# Altium footprint library OnlabFootprints.PcbLib: 20 footprints (part 2 of 2)
Each footprint in its own frame and in the unit in brackets; x right, y up, seen from the top. Pads: shape width x height; smd on the part's side, far side on the other; paste and mask are expansions set on the pad; w line width, h text height; cw(c..) or ccw(c..) is an arc to the next point about the centre after c.
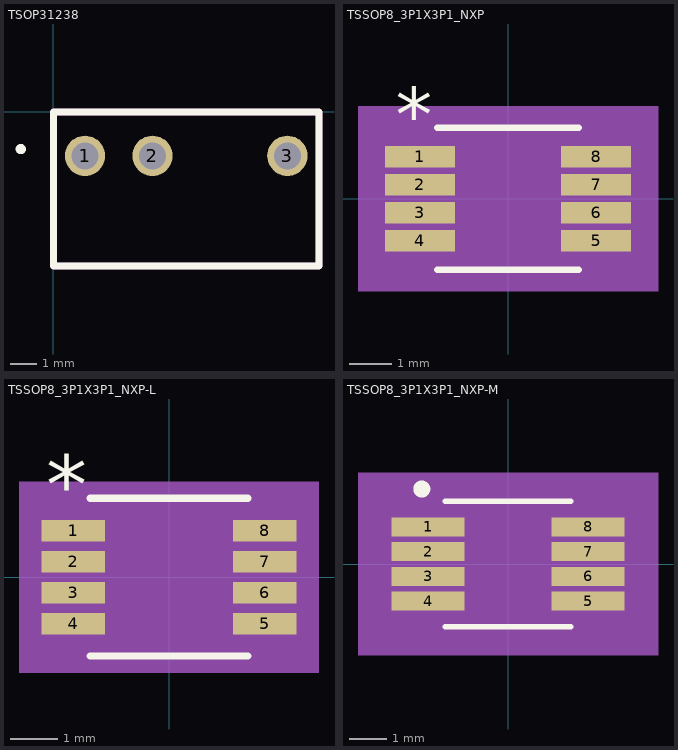
[diagram p1: the footprints below, top view; thin cyan lines are the x and y axes]

## TSOP31238 [mm]
pads (3):
  round 1.52 hole 1.02: 1(1.19,-1.65) 2(3.73,-1.65) 3(8.81,-1.65)
Top Overlay:
  circle w0.254: c-1.229,-1.396 r0.067
  lines w0.254: 0,-5.8 10,-5.8 10,0 0,0 0,-5.8
Mechanical 13:
  lines w0.254: 0,-5.8 0,0 10,0 10,-5.8 0,-5.8

## TSSOP8_3P1X3P1_NXP [mil]
pads (8):
  rect 65x20 smd paste+0 mask+0: 1(-82,39) 2(-82,13) 3(-82,-13) 4(-82,-39) 5(82,-39) 6(82,-13) 7(82,13) 8(82,39)
Top Overlay:
  lines w6: -66,-66 66,-66 ; -66,66 66,66
  text "*" at -104.5,54 h50
Mechanical 5:
  region: 139.5,-86 -139.5,-86 -139.5,86 139.5,86
Mechanical 13:
  lines w0: -12,61 ccw(c0,61) 12,61
  lines w1: -100.5,-48 -61,-48 -61,-30 -100.5,-30 -100.5,-48 ; -100.5,-22 -61,-22 -61,-4 -100.5,-4 -100.5,-22 ; -100.5,4 -61,4 -61,22 -100.5,22 -100.5,4 ; -100.5,30 -61,30 -61,48 -100.5,48 -100.5,30 ; -61,-61 -61,61 61,61 61,-61 -61,-61 ; 61,-48 100.5,-48 100.5,-30 61,-30 61,-48 ; 61,-22 100.5,-22 100.5,-4 61,-4 61,-22 ; 61,4 100.5,4 100.5,22 61,22 61,4 ; 61,30 100.5,30 100.5,48 61,48 61,30
  text "*" at -58.5,8 h50
Mechanical 15:
  region: -71,-59 -124.5,-59 -124.5,59 -71,59 -71,71 71,71 71,59 124.5,59 124.5,-59 71,-59 71,-71 -71,-71
  lines w6: -124.5,-59 -71,-59 -71,-71 71,-71 71,-59 124.5,-59 124.5,59 71,59 71,71 -71,71 -71,59 -124.5,59 -124.5,-59
3D body "TSSOP8_3P1X3P1_NXP.step": height 43.11, standoff 0, extent -100.51,-60.98 100.51,60.98

## TSSOP8_3P1X3P1_NXP-L [mil]
pads (8):
  rect 53x18 smd paste+0 mask+0: 1(-80,39) 2(-80,13) 3(-80,-13) 4(-80,-39) 5(80,-39) 6(80,-13) 7(80,13) 8(80,39)
Top Overlay:
  lines w6: -66,-66 66,-66 ; -66,66 66,66
  text "*" at -102.5,52 h50
Mechanical 5:
  region: 125.5,-80 -125.5,-80 -125.5,80 125.5,80
Mechanical 13:
  lines w0: -12,61 ccw(c0,61) 12,61
  lines w1: -100.5,-48 -100.5,-30 -61,-30 -61,-48 -100.5,-48 ; -100.5,-22 -100.5,-4 -61,-4 -61,-22 -100.5,-22 ; -100.5,4 -100.5,22 -61,22 -61,4 -100.5,4 ; -100.5,30 -100.5,48 -61,48 -61,30 -100.5,30 ; -61,-61 61,-61 61,61 -61,61 -61,-61 ; 61,-48 61,-30 100.5,-30 100.5,-48 61,-48 ; 61,-22 61,-4 100.5,-4 100.5,-22 61,-22 ; 61,4 61,22 100.5,22 100.5,4 61,4 ; 61,30 61,48 100.5,48 100.5,30 61,30
  text "*" at -58.5,8 h50
Mechanical 15:
  region: -65,-52 -110.5,-52 -110.5,52 -65,52 -65,65 65,65 65,52 110.5,52 110.5,-52 65,-52 65,-65 -65,-65
  lines w6: -110.5,-52 -110.5,52 -65,52 -65,65 65,65 65,52 110.5,52 110.5,-52 65,-52 65,-65 -65,-65 -65,-52 -110.5,-52
3D body "TSSOP8_3P1X3P1_NXP.step": height 43.11, standoff 0, extent -100.51,-60.98 100.51,60.98

## TSSOP8_3P1X3P1_NXP-M [mil]
pads (8):
  rect 77x20 smd paste+0 mask+0: 1(-84,39) 2(-84,13) 3(-84,-13) 4(-84,-39) 5(84,-39) 6(84,-13) 7(84,13) 8(84,39)
Top Overlay:
  circle w10: c-90.55,78.74 r3.94
  lines w6: -66,-66 66,-66 ; -66,66 66,66
Mechanical 5:
  region: 157.5,-96 -157.5,-96 -157.5,96 157.5,96
Mechanical 13:
  lines w0: -12,61 ccw(c0,61) 12,61
  lines w1: -100.5,-48 -100.5,-30 -61,-30 -61,-48 -100.5,-48 ; -100.5,-22 -100.5,-4 -61,-4 -61,-22 -100.5,-22 ; -100.5,4 -100.5,22 -61,22 -61,4 -100.5,4 ; -100.5,30 -100.5,48 -61,48 -61,30 -100.5,30 ; -61,-61 61,-61 61,61 -61,61 -61,-61 ; 61,-48 61,-30 100.5,-30 100.5,-48 61,-48 ; 61,-22 61,-4 100.5,-4 100.5,-22 61,-22 ; 61,4 61,22 100.5,22 100.5,4 61,4 ; 61,30 61,48 100.5,48 100.5,30 61,30
  text "*" at -58.5,8 h50
Mechanical 15:
  region: -81,-69 -142.5,-69 -142.5,69 -81,69 -81,81 81,81 81,69 142.5,69 142.5,-69 81,-69 81,-81 -81,-81
  lines w6: -142.5,-69 -142.5,69 -81,69 -81,81 81,81 81,69 142.5,69 142.5,-69 81,-69 81,-81 -81,-81 -81,-69 -142.5,-69
3D body "TSSOP8_3P1X3P1_NXP.step": height 43.11, standoff 0, extent -100.51,-60.98 100.51,60.98